# Altium integrated library Digi Microcontroller 32-Bit ARM.IntLib: 4 symbols
Pins are listed as number, name and electrical type; pins without a type are passive.

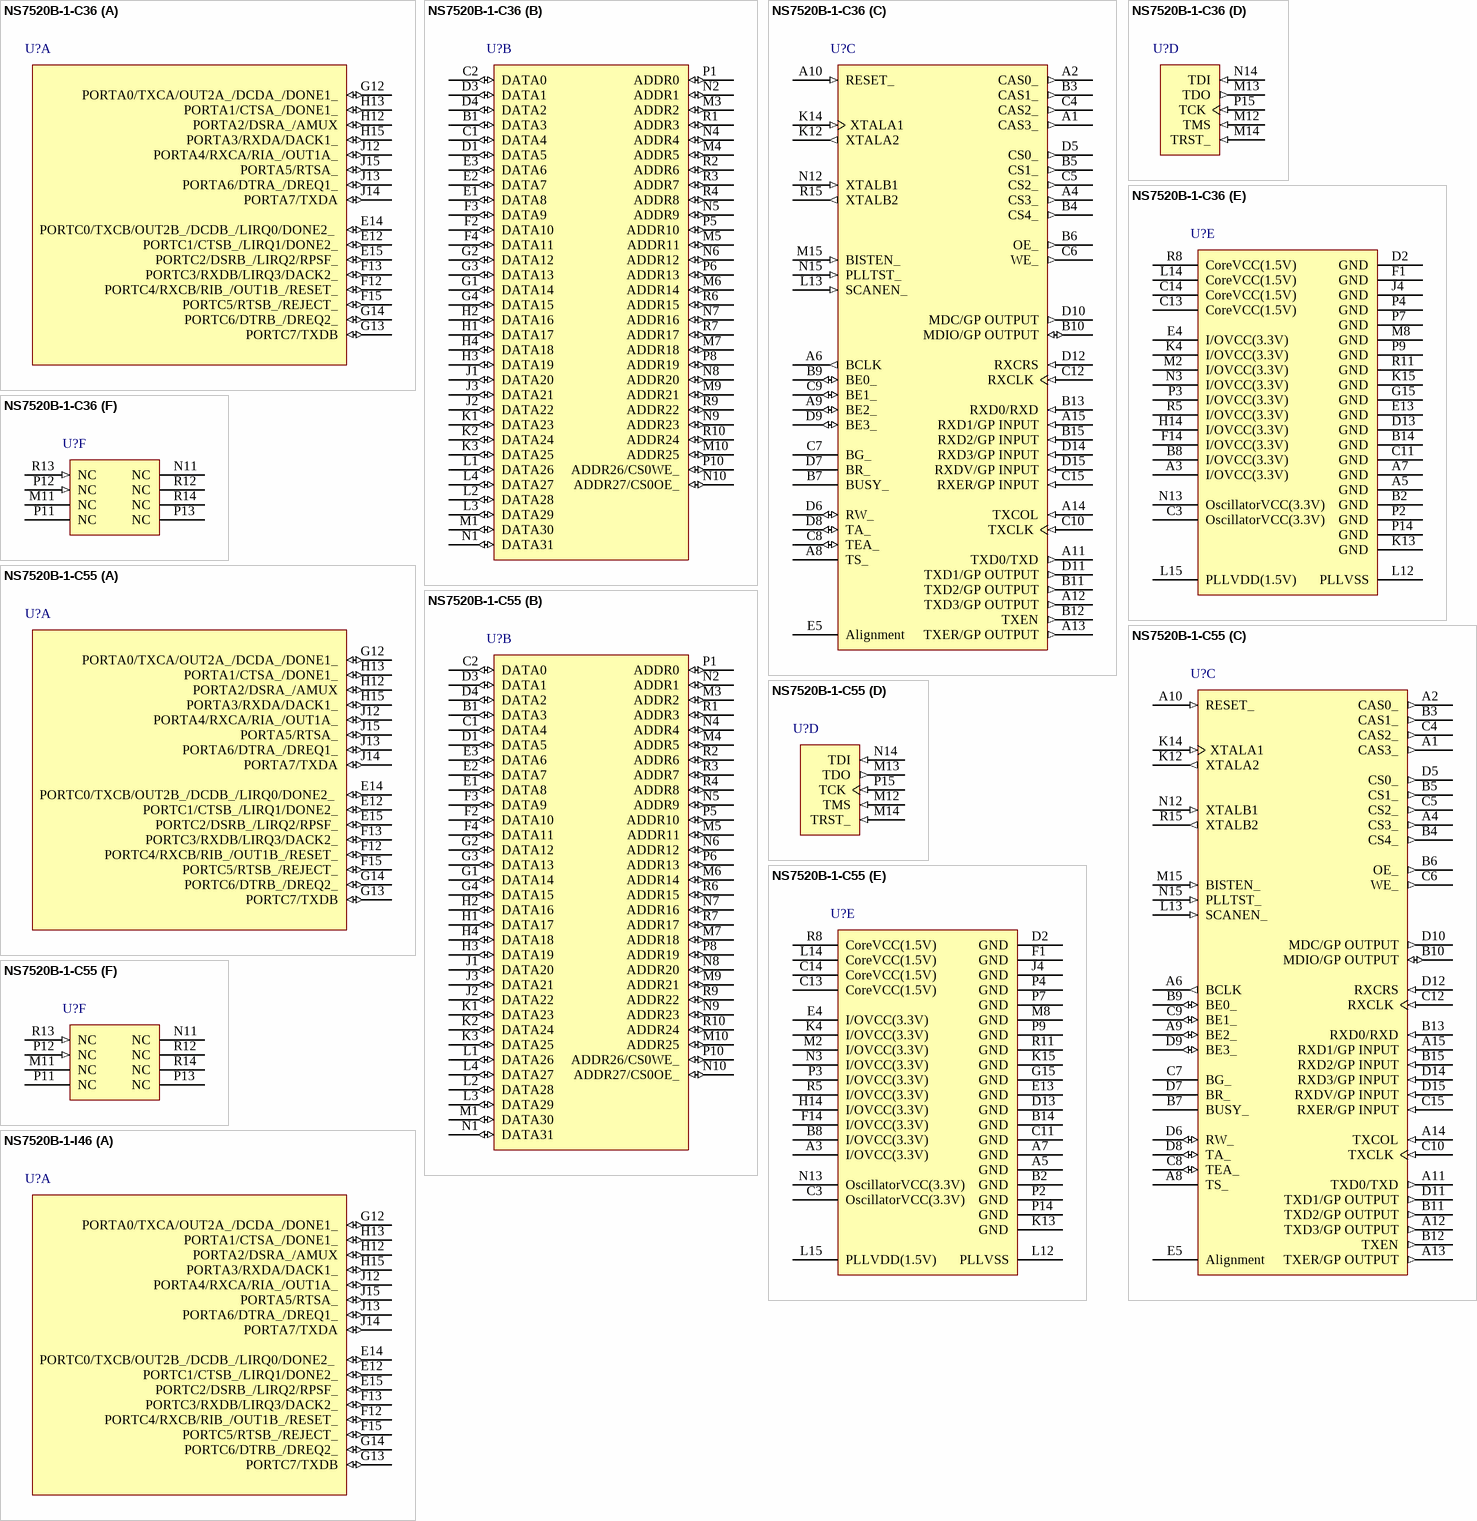
[diagram p0: symbols NS7520B-1-C36 to NS7520B-1-I46]

## NS7520B-1-C36
designator U?
ARM7TDMI 32-Bit RISC CPU, 36 MHz, 177-pin PFBGA, Commercial Grade, Pb-Free; Published: 12-Dec-2006; DatasheetVersion: Mar-2006; PackageVersion: Mar-2006; PackageReference: PFBGA177; Publisher: Altium Limited; PackageDescription: 177-Ball Ball Grid Array 0.8 mm Pitch; ComponentLink1Description: Manufacturer Link; ComponentLink1URL: http://www.digi.com/; ComponentLink2Description: Datasheet; ComponentLink2URL: http://www.digi.com/pdf/prd_mp_ns7520_ds.pdf
footprint PFBGA177 (BGA, 177-Leads, Body 13x13mm, Pitch 0.8mm)
part A pins: E12 PORTC1/CTSB_/LIRQ1/DONE2_ (io), E14 PORTC0/TXCB/OUT2B_/DCDB_/LIRQ0/DONE2_  (io), E15 PORTC2/DSRB_/LIRQ2/RPSF_ (io), F12 PORTC4/RXCB/RIB_/OUT1B_/RESET_ (io), F13 PORTC3/RXDB/LIRQ3/DACK2_ (io), F15 PORTC5/RTSB_/REJECT_ (io), G12 PORTA0/TXCA/OUT2A_/DCDA_/DONE1_ (io), G13 PORTC7/TXDB (io), G14 PORTC6/DTRB_/DREQ2_ (io), H12 PORTA2/DSRA_/AMUX (io), H13 PORTA1/CTSA_/DONE1_ (io), H15 PORTA3/RXDA/DACK1_ (io), J12 PORTA4/RXCA/RIA_/OUT1A_ (io), J13 PORTA6/DTRA_/DREQ1_ (io), J14 PORTA7/TXDA (io), J15 PORTA5/RTSA_ (io)
part B pins: B1 DATA3 (io), C1 DATA4 (io), C2 DATA0 (io), D1 DATA5 (io), D3 DATA1 (io), D4 DATA2 (io), E1 DATA8 (io), E2 DATA7 (io), E3 DATA6 (io), F2 DATA10 (io), F3 DATA9 (io), F4 DATA11 (io), G1 DATA14 (io), G2 DATA12 (io), G3 DATA13 (io), G4 DATA15 (io), H1 DATA17 (io), H2 DATA16 (io), H3 DATA19 (io), H4 DATA18 (io), J1 DATA20 (io), J2 DATA22 (io), J3 DATA21 (io), K1 DATA23 (io), K2 DATA24 (io), K3 DATA25 (io), L1 DATA26 (io), L2 DATA28 (io), L3 DATA29 (io), L4 DATA27 (io), M1 DATA30 (io), M3 ADDR2 (io), M4 ADDR5 (io), M5 ADDR11 (io), M6 ADDR14 (io), M7 ADDR18 (io), M9 ADDR21 (io), M10 ADDR25 (io), N1 DATA31 (io), N2 ADDR1 (io), N4 ADDR4 (io), N5 ADDR9 (io), N6 ADDR12 (io), N7 ADDR16 (io), N8 ADDR20 (io), N9 ADDR23 (io), N10 ADDR27/CS0OE_ (io), P1 ADDR0 (io), P5 ADDR10 (io), P6 ADDR13 (io), P8 ADDR19 (io), P10 ADDR26/CS0WE_ (io), R1 ADDR3 (io), R2 ADDR6 (io), R3 ADDR7 (io), R4 ADDR8 (io), R6 ADDR15 (io), R7 ADDR17 (io), R9 ADDR22 (io), R10 ADDR24 (io)
part C pins: A1 CAS3_ (out), A2 CAS0_ (out), A4 CS3_ (out), A6 BCLK (out), A8 TS_, A9 BE2_ (io), A10 RESET_ (in), A11 TXD0/TXD (out), A12 TXD3/GP OUTPUT (out), A13 TXER/GP OUTPUT (out), A14 TXCOL (in), A15 RXD1/GP INPUT (in), B3 CAS1_ (out), B4 CS4_ (out), B5 CS1_ (out), B6 OE_ (out), B7 BUSY_, B9 BE0_ (io), B10 MDIO/GP OUTPUT (io), B11 TXD2/GP OUTPUT (out), B12 TXEN (out), B13 RXD0/RXD (in), B15 RXD2/GP INPUT (in), C4 CAS2_ (out), C5 CS2_ (out), C6 WE_ (out), C7 BG_, C8 TEA_ (io), C9 BE1_ (io), C10 TXCLK (in), C12 RXCLK (in), C15 RXER/GP INPUT (in), D5 CS0_ (out), D6 RW_ (io), D7 BR_, D8 TA_ (io), D9 BE3_ (io), D10 MDC/GP OUTPUT (out), D11 TXD1/GP OUTPUT (out), D12 RXCRS (in), D14 RXD3/GP INPUT (in), D15 RXDV/GP INPUT (in), E5 Alignment, K12 XTALA2 (out), K14 XTALA1 (in), L13 SCANEN_ (in), M15 BISTEN_ (in), N12 XTALB1 (in) "Tie to VCC", N15 PLLTST_ (in), R15 XTALB2 (out) "No Connect"
part D pins: M12 TMS (in), M13 TDO (out), M14 TRST_ (in), N14 TDI (in), P15 TCK (in)
part E pins: A3 I/OVCC(3.3V) (power), A5 GND (power), A7 GND (power), B2 GND (power), B8 I/OVCC(3.3V) (power), B14 GND (power), C3 OscillatorVCC(3.3V) (power), C11 GND (power), C13 CoreVCC(1.5V) (power), C14 CoreVCC(1.5V) (power), D2 GND (power), D13 GND (power), E4 I/OVCC(3.3V) (power), E13 GND (power), F1 GND (power), F14 I/OVCC(3.3V) (power), G15 GND (power), H14 I/OVCC(3.3V) (power), J4 GND (power), K4 I/OVCC(3.3V) (power), K13 GND (power), K15 GND (power), L12 PLLVSS (power), L14 CoreVCC(1.5V) (power), L15 PLLVDD(1.5V) (power), M2 I/OVCC(3.3V) (power), M8 GND (power), N3 I/OVCC(3.3V) (power), N13 OscillatorVCC(3.3V) (power), P2 GND (power), P3 I/OVCC(3.3V) (power), P4 GND (power), P7 GND (power), P9 GND (power), P14 GND (power), R5 I/OVCC(3.3V) (power), R8 CoreVCC(1.5V) (power), R11 GND (power)
part F pins: M11 NC, N11 NC, P11 NC, P12 NC (in) "Tie to VCC", P13 NC, R12 NC, R13 NC (in) "Tie to VCC", R14 NC

## NS7520B-1-C55
designator U?
ARM7TDMI 32-Bit RISC CPU, 55 MHz, 177-pin PFBGA, Commercial Grade, Pb-Free; Published: 12-Dec-2006; DatasheetVersion: Mar-2006; PackageVersion: Mar-2006; PackageReference: PFBGA177; Publisher: Altium Limited; PackageDescription: 177-Ball Ball Grid Array 0.8 mm Pitch; ComponentLink1Description: Manufacturer Link; ComponentLink1URL: http://www.digi.com/; ComponentLink2Description: Datasheet; ComponentLink2URL: http://www.digi.com/pdf/prd_mp_ns7520_ds.pdf
footprint PFBGA177 (BGA, 177-Leads, Body 13x13mm, Pitch 0.8mm)
part A pins: E12 PORTC1/CTSB_/LIRQ1/DONE2_ (io), E14 PORTC0/TXCB/OUT2B_/DCDB_/LIRQ0/DONE2_  (io), E15 PORTC2/DSRB_/LIRQ2/RPSF_ (io), F12 PORTC4/RXCB/RIB_/OUT1B_/RESET_ (io), F13 PORTC3/RXDB/LIRQ3/DACK2_ (io), F15 PORTC5/RTSB_/REJECT_ (io), G12 PORTA0/TXCA/OUT2A_/DCDA_/DONE1_ (io), G13 PORTC7/TXDB (io), G14 PORTC6/DTRB_/DREQ2_ (io), H12 PORTA2/DSRA_/AMUX (io), H13 PORTA1/CTSA_/DONE1_ (io), H15 PORTA3/RXDA/DACK1_ (io), J12 PORTA4/RXCA/RIA_/OUT1A_ (io), J13 PORTA6/DTRA_/DREQ1_ (io), J14 PORTA7/TXDA (io), J15 PORTA5/RTSA_ (io)
part B pins: B1 DATA3 (io), C1 DATA4 (io), C2 DATA0 (io), D1 DATA5 (io), D3 DATA1 (io), D4 DATA2 (io), E1 DATA8 (io), E2 DATA7 (io), E3 DATA6 (io), F2 DATA10 (io), F3 DATA9 (io), F4 DATA11 (io), G1 DATA14 (io), G2 DATA12 (io), G3 DATA13 (io), G4 DATA15 (io), H1 DATA17 (io), H2 DATA16 (io), H3 DATA19 (io), H4 DATA18 (io), J1 DATA20 (io), J2 DATA22 (io), J3 DATA21 (io), K1 DATA23 (io), K2 DATA24 (io), K3 DATA25 (io), L1 DATA26 (io), L2 DATA28 (io), L3 DATA29 (io), L4 DATA27 (io), M1 DATA30 (io), M3 ADDR2 (io), M4 ADDR5 (io), M5 ADDR11 (io), M6 ADDR14 (io), M7 ADDR18 (io), M9 ADDR21 (io), M10 ADDR25 (io), N1 DATA31 (io), N2 ADDR1 (io), N4 ADDR4 (io), N5 ADDR9 (io), N6 ADDR12 (io), N7 ADDR16 (io), N8 ADDR20 (io), N9 ADDR23 (io), N10 ADDR27/CS0OE_ (io), P1 ADDR0 (io), P5 ADDR10 (io), P6 ADDR13 (io), P8 ADDR19 (io), P10 ADDR26/CS0WE_ (io), R1 ADDR3 (io), R2 ADDR6 (io), R3 ADDR7 (io), R4 ADDR8 (io), R6 ADDR15 (io), R7 ADDR17 (io), R9 ADDR22 (io), R10 ADDR24 (io)
part C pins: A1 CAS3_ (out), A2 CAS0_ (out), A4 CS3_ (out), A6 BCLK (out), A8 TS_, A9 BE2_ (io), A10 RESET_ (in), A11 TXD0/TXD (out), A12 TXD3/GP OUTPUT (out), A13 TXER/GP OUTPUT (out), A14 TXCOL (in), A15 RXD1/GP INPUT (in), B3 CAS1_ (out), B4 CS4_ (out), B5 CS1_ (out), B6 OE_ (out), B7 BUSY_, B9 BE0_ (io), B10 MDIO/GP OUTPUT (io), B11 TXD2/GP OUTPUT (out), B12 TXEN (out), B13 RXD0/RXD (in), B15 RXD2/GP INPUT (in), C4 CAS2_ (out), C5 CS2_ (out), C6 WE_ (out), C7 BG_, C8 TEA_ (io), C9 BE1_ (io), C10 TXCLK (in), C12 RXCLK (in), C15 RXER/GP INPUT (in), D5 CS0_ (out), D6 RW_ (io), D7 BR_, D8 TA_ (io), D9 BE3_ (io), D10 MDC/GP OUTPUT (out), D11 TXD1/GP OUTPUT (out), D12 RXCRS (in), D14 RXD3/GP INPUT (in), D15 RXDV/GP INPUT (in), E5 Alignment, K12 XTALA2 (out), K14 XTALA1 (in), L13 SCANEN_ (in), M15 BISTEN_ (in), N12 XTALB1 (in) "Tie to VCC", N15 PLLTST_ (in), R15 XTALB2 (out) "No Connect"
part D pins: M12 TMS (in), M13 TDO (out), M14 TRST_ (in), N14 TDI (in), P15 TCK (in)
part E pins: A3 I/OVCC(3.3V) (power), A5 GND (power), A7 GND (power), B2 GND (power), B8 I/OVCC(3.3V) (power), B14 GND (power), C3 OscillatorVCC(3.3V) (power), C11 GND (power), C13 CoreVCC(1.5V) (power), C14 CoreVCC(1.5V) (power), D2 GND (power), D13 GND (power), E4 I/OVCC(3.3V) (power), E13 GND (power), F1 GND (power), F14 I/OVCC(3.3V) (power), G15 GND (power), H14 I/OVCC(3.3V) (power), J4 GND (power), K4 I/OVCC(3.3V) (power), K13 GND (power), K15 GND (power), L12 PLLVSS (power), L14 CoreVCC(1.5V) (power), L15 PLLVDD(1.5V) (power), M2 I/OVCC(3.3V) (power), M8 GND (power), N3 I/OVCC(3.3V) (power), N13 OscillatorVCC(3.3V) (power), P2 GND (power), P3 I/OVCC(3.3V) (power), P4 GND (power), P7 GND (power), P9 GND (power), P14 GND (power), R5 I/OVCC(3.3V) (power), R8 CoreVCC(1.5V) (power), R11 GND (power)
part F pins: M11 NC, N11 NC, P11 NC, P12 NC (in) "Tie to VCC", P13 NC, R12 NC, R13 NC (in) "Tie to VCC", R14 NC

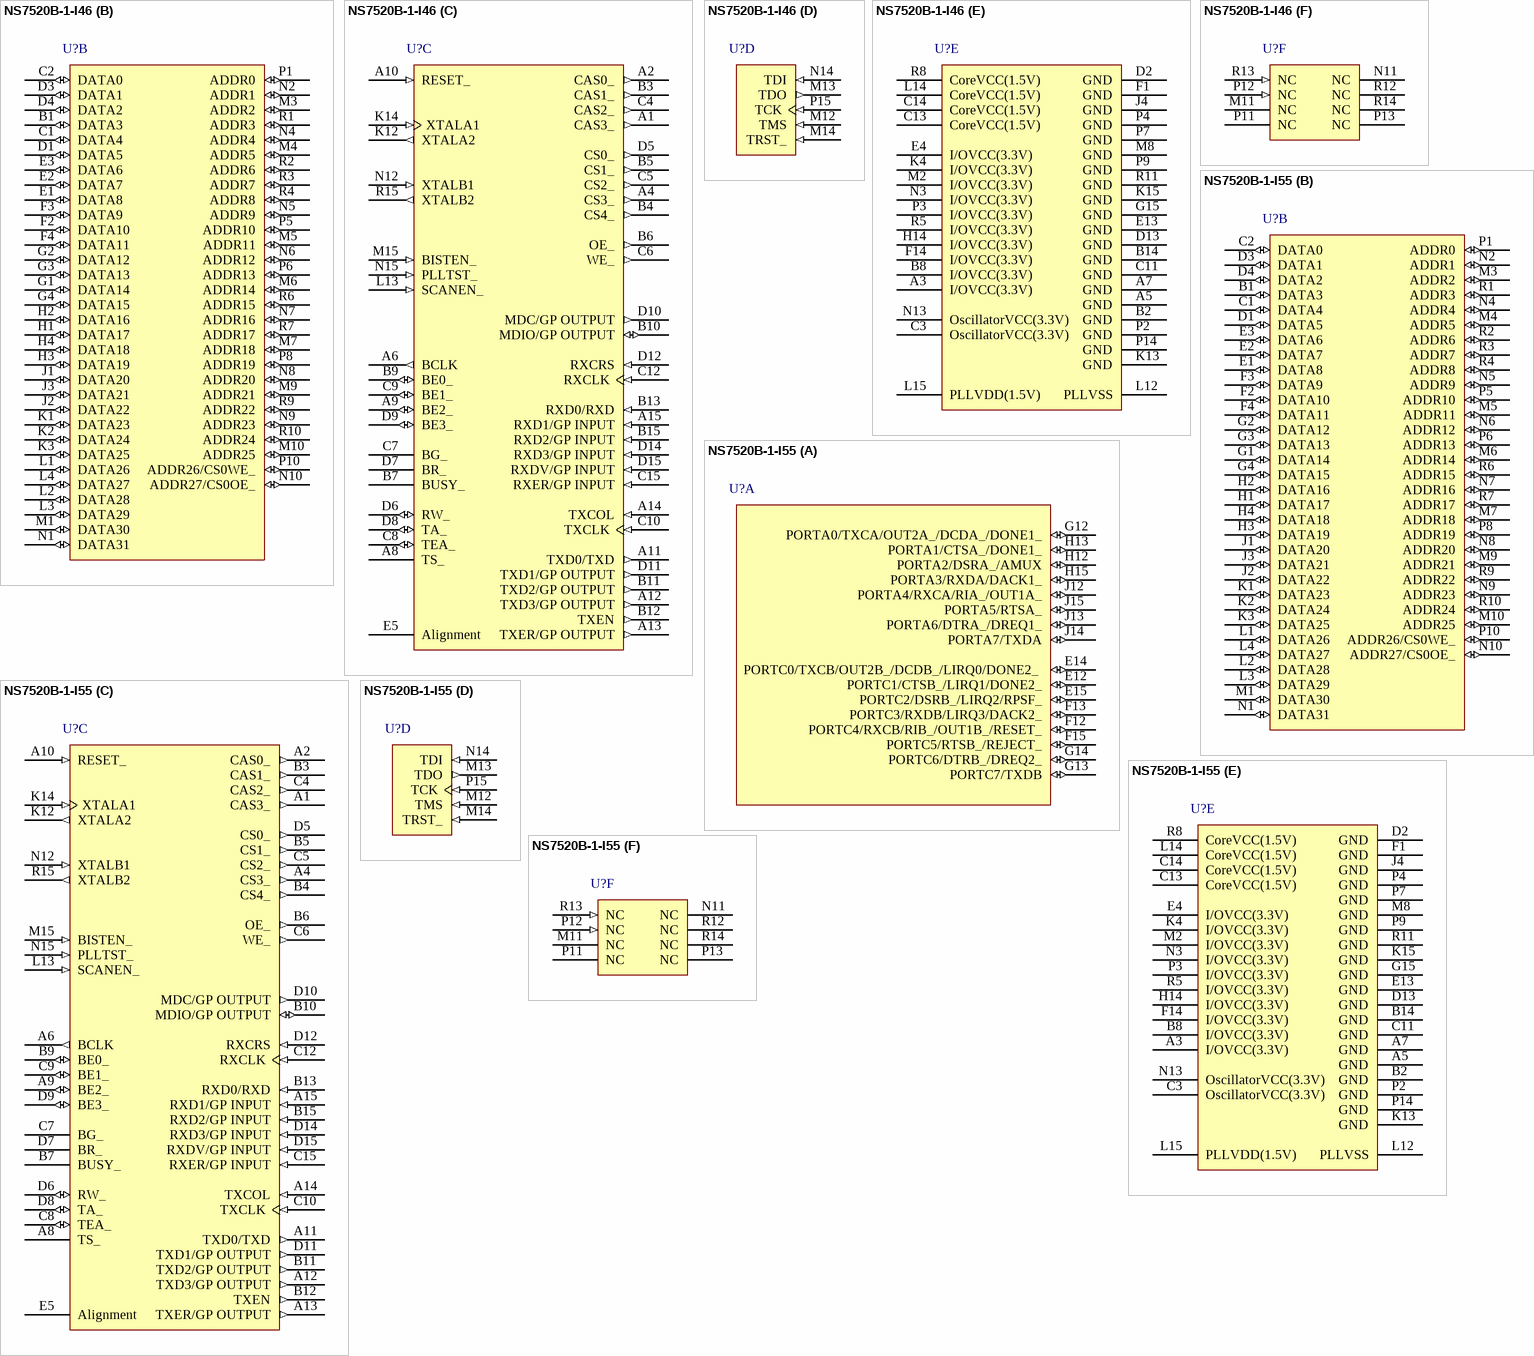
[diagram p1: symbols NS7520B-1-I46 to NS7520B-1-I55]

## NS7520B-1-I46
designator U?
ARM7TDMI 32-Bit RISC CPU, 46 MHz, 177-pin PFBGA, Industrial Grade, Pb-Free; Published: 12-Dec-2006; DatasheetVersion: Mar-2006; PackageVersion: Mar-2006; PackageReference: PFBGA177; Publisher: Altium Limited; PackageDescription: 177-Ball Ball Grid Array 0.8 mm Pitch; ComponentLink1Description: Manufacturer Link; ComponentLink1URL: http://www.digi.com/; ComponentLink2Description: Datasheet; ComponentLink2URL: http://www.digi.com/pdf/prd_mp_ns7520_ds.pdf
footprint PFBGA177 (BGA, 177-Leads, Body 13x13mm, Pitch 0.8mm)
part A pins: E12 PORTC1/CTSB_/LIRQ1/DONE2_ (io), E14 PORTC0/TXCB/OUT2B_/DCDB_/LIRQ0/DONE2_  (io), E15 PORTC2/DSRB_/LIRQ2/RPSF_ (io), F12 PORTC4/RXCB/RIB_/OUT1B_/RESET_ (io), F13 PORTC3/RXDB/LIRQ3/DACK2_ (io), F15 PORTC5/RTSB_/REJECT_ (io), G12 PORTA0/TXCA/OUT2A_/DCDA_/DONE1_ (io), G13 PORTC7/TXDB (io), G14 PORTC6/DTRB_/DREQ2_ (io), H12 PORTA2/DSRA_/AMUX (io), H13 PORTA1/CTSA_/DONE1_ (io), H15 PORTA3/RXDA/DACK1_ (io), J12 PORTA4/RXCA/RIA_/OUT1A_ (io), J13 PORTA6/DTRA_/DREQ1_ (io), J14 PORTA7/TXDA (io), J15 PORTA5/RTSA_ (io)
part B pins: B1 DATA3 (io), C1 DATA4 (io), C2 DATA0 (io), D1 DATA5 (io), D3 DATA1 (io), D4 DATA2 (io), E1 DATA8 (io), E2 DATA7 (io), E3 DATA6 (io), F2 DATA10 (io), F3 DATA9 (io), F4 DATA11 (io), G1 DATA14 (io), G2 DATA12 (io), G3 DATA13 (io), G4 DATA15 (io), H1 DATA17 (io), H2 DATA16 (io), H3 DATA19 (io), H4 DATA18 (io), J1 DATA20 (io), J2 DATA22 (io), J3 DATA21 (io), K1 DATA23 (io), K2 DATA24 (io), K3 DATA25 (io), L1 DATA26 (io), L2 DATA28 (io), L3 DATA29 (io), L4 DATA27 (io), M1 DATA30 (io), M3 ADDR2 (io), M4 ADDR5 (io), M5 ADDR11 (io), M6 ADDR14 (io), M7 ADDR18 (io), M9 ADDR21 (io), M10 ADDR25 (io), N1 DATA31 (io), N2 ADDR1 (io), N4 ADDR4 (io), N5 ADDR9 (io), N6 ADDR12 (io), N7 ADDR16 (io), N8 ADDR20 (io), N9 ADDR23 (io), N10 ADDR27/CS0OE_ (io), P1 ADDR0 (io), P5 ADDR10 (io), P6 ADDR13 (io), P8 ADDR19 (io), P10 ADDR26/CS0WE_ (io), R1 ADDR3 (io), R2 ADDR6 (io), R3 ADDR7 (io), R4 ADDR8 (io), R6 ADDR15 (io), R7 ADDR17 (io), R9 ADDR22 (io), R10 ADDR24 (io)
part C pins: A1 CAS3_ (out), A2 CAS0_ (out), A4 CS3_ (out), A6 BCLK (out), A8 TS_, A9 BE2_ (io), A10 RESET_ (in), A11 TXD0/TXD (out), A12 TXD3/GP OUTPUT (out), A13 TXER/GP OUTPUT (out), A14 TXCOL (in), A15 RXD1/GP INPUT (in), B3 CAS1_ (out), B4 CS4_ (out), B5 CS1_ (out), B6 OE_ (out), B7 BUSY_, B9 BE0_ (io), B10 MDIO/GP OUTPUT (io), B11 TXD2/GP OUTPUT (out), B12 TXEN (out), B13 RXD0/RXD (in), B15 RXD2/GP INPUT (in), C4 CAS2_ (out), C5 CS2_ (out), C6 WE_ (out), C7 BG_, C8 TEA_ (io), C9 BE1_ (io), C10 TXCLK (in), C12 RXCLK (in), C15 RXER/GP INPUT (in), D5 CS0_ (out), D6 RW_ (io), D7 BR_, D8 TA_ (io), D9 BE3_ (io), D10 MDC/GP OUTPUT (out), D11 TXD1/GP OUTPUT (out), D12 RXCRS (in), D14 RXD3/GP INPUT (in), D15 RXDV/GP INPUT (in), E5 Alignment, K12 XTALA2 (out), K14 XTALA1 (in), L13 SCANEN_ (in), M15 BISTEN_ (in), N12 XTALB1 (in) "Tie to VCC", N15 PLLTST_ (in), R15 XTALB2 (out) "No Connect"
part D pins: M12 TMS (in), M13 TDO (out), M14 TRST_ (in), N14 TDI (in), P15 TCK (in)
part E pins: A3 I/OVCC(3.3V) (power), A5 GND (power), A7 GND (power), B2 GND (power), B8 I/OVCC(3.3V) (power), B14 GND (power), C3 OscillatorVCC(3.3V) (power), C11 GND (power), C13 CoreVCC(1.5V) (power), C14 CoreVCC(1.5V) (power), D2 GND (power), D13 GND (power), E4 I/OVCC(3.3V) (power), E13 GND (power), F1 GND (power), F14 I/OVCC(3.3V) (power), G15 GND (power), H14 I/OVCC(3.3V) (power), J4 GND (power), K4 I/OVCC(3.3V) (power), K13 GND (power), K15 GND (power), L12 PLLVSS (power), L14 CoreVCC(1.5V) (power), L15 PLLVDD(1.5V) (power), M2 I/OVCC(3.3V) (power), M8 GND (power), N3 I/OVCC(3.3V) (power), N13 OscillatorVCC(3.3V) (power), P2 GND (power), P3 I/OVCC(3.3V) (power), P4 GND (power), P7 GND (power), P9 GND (power), P14 GND (power), R5 I/OVCC(3.3V) (power), R8 CoreVCC(1.5V) (power), R11 GND (power)
part F pins: M11 NC, N11 NC, P11 NC, P12 NC (in) "Tie to VCC", P13 NC, R12 NC, R13 NC (in) "Tie to VCC", R14 NC

## NS7520B-1-I55
designator U?
ARM7TDMI 32-Bit RISC CPU, 55 MHz, 177-pin PFBGA, Industrial Grade, Pb-Free; Published: 12-Dec-2006; DatasheetVersion: Mar-2006; PackageVersion: Mar-2006; PackageReference: PFBGA177; Publisher: Altium Limited; PackageDescription: 177-Ball Ball Grid Array 0.8 mm Pitch; ComponentLink1Description: Manufacturer Link; ComponentLink1URL: http://www.digi.com/; ComponentLink2Description: Datasheet; ComponentLink2URL: http://www.digi.com/pdf/prd_mp_ns7520_ds.pdf
footprint PFBGA177 (BGA, 177-Leads, Body 13x13mm, Pitch 0.8mm)
part A pins: E12 PORTC1/CTSB_/LIRQ1/DONE2_ (io), E14 PORTC0/TXCB/OUT2B_/DCDB_/LIRQ0/DONE2_  (io), E15 PORTC2/DSRB_/LIRQ2/RPSF_ (io), F12 PORTC4/RXCB/RIB_/OUT1B_/RESET_ (io), F13 PORTC3/RXDB/LIRQ3/DACK2_ (io), F15 PORTC5/RTSB_/REJECT_ (io), G12 PORTA0/TXCA/OUT2A_/DCDA_/DONE1_ (io), G13 PORTC7/TXDB (io), G14 PORTC6/DTRB_/DREQ2_ (io), H12 PORTA2/DSRA_/AMUX (io), H13 PORTA1/CTSA_/DONE1_ (io), H15 PORTA3/RXDA/DACK1_ (io), J12 PORTA4/RXCA/RIA_/OUT1A_ (io), J13 PORTA6/DTRA_/DREQ1_ (io), J14 PORTA7/TXDA (io), J15 PORTA5/RTSA_ (io)
part B pins: B1 DATA3 (io), C1 DATA4 (io), C2 DATA0 (io), D1 DATA5 (io), D3 DATA1 (io), D4 DATA2 (io), E1 DATA8 (io), E2 DATA7 (io), E3 DATA6 (io), F2 DATA10 (io), F3 DATA9 (io), F4 DATA11 (io), G1 DATA14 (io), G2 DATA12 (io), G3 DATA13 (io), G4 DATA15 (io), H1 DATA17 (io), H2 DATA16 (io), H3 DATA19 (io), H4 DATA18 (io), J1 DATA20 (io), J2 DATA22 (io), J3 DATA21 (io), K1 DATA23 (io), K2 DATA24 (io), K3 DATA25 (io), L1 DATA26 (io), L2 DATA28 (io), L3 DATA29 (io), L4 DATA27 (io), M1 DATA30 (io), M3 ADDR2 (io), M4 ADDR5 (io), M5 ADDR11 (io), M6 ADDR14 (io), M7 ADDR18 (io), M9 ADDR21 (io), M10 ADDR25 (io), N1 DATA31 (io), N2 ADDR1 (io), N4 ADDR4 (io), N5 ADDR9 (io), N6 ADDR12 (io), N7 ADDR16 (io), N8 ADDR20 (io), N9 ADDR23 (io), N10 ADDR27/CS0OE_ (io), P1 ADDR0 (io), P5 ADDR10 (io), P6 ADDR13 (io), P8 ADDR19 (io), P10 ADDR26/CS0WE_ (io), R1 ADDR3 (io), R2 ADDR6 (io), R3 ADDR7 (io), R4 ADDR8 (io), R6 ADDR15 (io), R7 ADDR17 (io), R9 ADDR22 (io), R10 ADDR24 (io)
part C pins: A1 CAS3_ (out), A2 CAS0_ (out), A4 CS3_ (out), A6 BCLK (out), A8 TS_, A9 BE2_ (io), A10 RESET_ (in), A11 TXD0/TXD (out), A12 TXD3/GP OUTPUT (out), A13 TXER/GP OUTPUT (out), A14 TXCOL (in), A15 RXD1/GP INPUT (in), B3 CAS1_ (out), B4 CS4_ (out), B5 CS1_ (out), B6 OE_ (out), B7 BUSY_, B9 BE0_ (io), B10 MDIO/GP OUTPUT (io), B11 TXD2/GP OUTPUT (out), B12 TXEN (out), B13 RXD0/RXD (in), B15 RXD2/GP INPUT (in), C4 CAS2_ (out), C5 CS2_ (out), C6 WE_ (out), C7 BG_, C8 TEA_ (io), C9 BE1_ (io), C10 TXCLK (in), C12 RXCLK (in), C15 RXER/GP INPUT (in), D5 CS0_ (out), D6 RW_ (io), D7 BR_, D8 TA_ (io), D9 BE3_ (io), D10 MDC/GP OUTPUT (out), D11 TXD1/GP OUTPUT (out), D12 RXCRS (in), D14 RXD3/GP INPUT (in), D15 RXDV/GP INPUT (in), E5 Alignment, K12 XTALA2 (out), K14 XTALA1 (in), L13 SCANEN_ (in), M15 BISTEN_ (in), N12 XTALB1 (in) "Tie to VCC", N15 PLLTST_ (in), R15 XTALB2 (out) "No Connect"
part D pins: M12 TMS (in), M13 TDO (out), M14 TRST_ (in), N14 TDI (in), P15 TCK (in)
part E pins: A3 I/OVCC(3.3V) (power), A5 GND (power), A7 GND (power), B2 GND (power), B8 I/OVCC(3.3V) (power), B14 GND (power), C3 OscillatorVCC(3.3V) (power), C11 GND (power), C13 CoreVCC(1.5V) (power), C14 CoreVCC(1.5V) (power), D2 GND (power), D13 GND (power), E4 I/OVCC(3.3V) (power), E13 GND (power), F1 GND (power), F14 I/OVCC(3.3V) (power), G15 GND (power), H14 I/OVCC(3.3V) (power), J4 GND (power), K4 I/OVCC(3.3V) (power), K13 GND (power), K15 GND (power), L12 PLLVSS (power), L14 CoreVCC(1.5V) (power), L15 PLLVDD(1.5V) (power), M2 I/OVCC(3.3V) (power), M8 GND (power), N3 I/OVCC(3.3V) (power), N13 OscillatorVCC(3.3V) (power), P2 GND (power), P3 I/OVCC(3.3V) (power), P4 GND (power), P7 GND (power), P9 GND (power), P14 GND (power), R5 I/OVCC(3.3V) (power), R8 CoreVCC(1.5V) (power), R11 GND (power)
part F pins: M11 NC, N11 NC, P11 NC, P12 NC (in) "Tie to VCC", P13 NC, R12 NC, R13 NC (in) "Tie to VCC", R14 NC